# Altium footprint library USB连接器.PcbLib: 2 footprints
Each footprint in its own frame and in the unit in brackets; x right, y up, seen from the top. Pads: shape width x height; smd on the part's side, far side on the other; paste and mask are expansions set on the pad; w line width, h text height; cw(c..) or ccw(c..) is an arc to the next point about the centre after c.
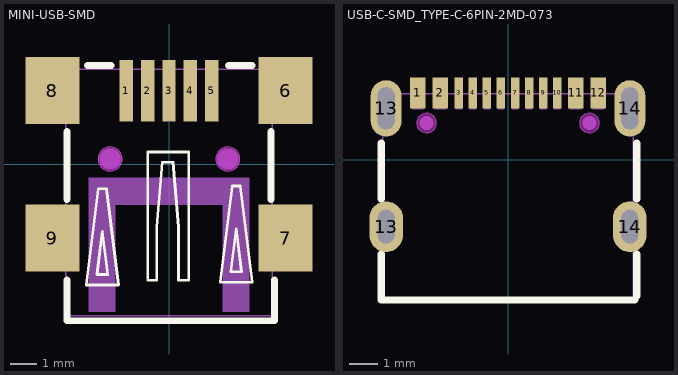
[diagram p0: the footprints below, top view; thin cyan lines are the x and y axes]

## MINI-USB-SMD [mm]
pads (9):
  rect 0.5x2.3 smd: 1(-1.6,2.75) 2(-0.8,2.75) 3(0,2.75) 4(0.8,2.75) 5(1.6,2.75)
  rect 2x2.5 smd: 6(4.35,2.75) 7(4.35,-2.75) 8(-4.35,2.75) 9(-4.35,-2.75)
Top Overlay:
  lines w0.102: -3.086,-4.507 -2.636,-0.908 -2.337,-0.908 -1.887,-4.507 -3.086,-4.507 ; -2.687,-4.108 -2.487,-2.508 -2.286,-4.108 -2.687,-4.108 ; -0.79,-4.329 -0.79,0.464 -0.762,0.464 0.737,0.464 0.737,-4.329 0.356,-4.329 0.356,-2.33 0.153,0.083 -0.254,0.083 -0.457,-2.33 -0.457,-4.329 -0.79,-4.329 ; 1.91,-4.405 2.36,-0.806 2.659,-0.806 3.109,-4.405 1.91,-4.405 ; 2.309,-4.006 2.51,-2.406 2.71,-4.006 2.309,-4.006
  lines w0.254: -3.81,-4.315 -3.81,-5.839 3.937,-5.839 3.937,-4.315 ; -3.81,-1.314 -3.81,1.226 ; -3.048,3.686 -2.159,3.686 ; 2.223,3.686 3.112,3.686 ; 3.81,-1.314 3.81,1.226
Keep-Out Layer:
  board cut-out: -1.75,0.2 -1.75,0.29 -1.818,0.455 -1.945,0.582 -2.11,0.65 -2.289,0.65 -2.455,0.582 -2.581,0.455 -2.65,0.29 -2.65,0.2 -2.65,0.111 -2.581,-0.055 -2.455,-0.182 -2.289,-0.25 -2.11,-0.25 -1.945,-0.182 -1.818,-0.055 -1.75,0.111
  board cut-out: 2.65,0.2 2.65,0.29 2.582,0.455 2.455,0.582 2.29,0.65 2.111,0.65 1.945,0.582 1.819,0.455 1.75,0.29 1.75,0.2 1.75,0.111 1.819,-0.055 1.945,-0.182 2.111,-0.25 2.29,-0.25 2.455,-0.182 2.582,-0.055 2.65,0.111
Mechanical 1:
  circle w0.005: c-2.2,0.2 r0.45
  circle w0.005: c2.2,0.2 r0.45
Mechanical 6:
  circle w0.4: c-2.2,0.2 r0.2
  circle w0.4: c2.2,0.2 r0.2
  region: -2,-0.5 2,-0.5 2,-1.5 -2,-1.5
  region: 3,-5.5 3,-0.5 2,-0.5 2,-5.5
  region: -3,-5.5 -3,-0.5 -2,-0.5 -2,-5.5
Mechanical 15:
  region: -4.9,-2 -3.7,-2 -3.7,-3.5 -4.9,-3.5
  region: 3.7,-2 4.9,-2 4.9,-3.5 3.7,-3.5
  region: 3.7,3.5 4.9,3.5 4.9,2 3.7,2
  region: -4.9,3.5 -3.7,3.5 -3.7,2 -4.9,2
  region: 1.45,3.546 1.75,3.546 1.75,2.046 1.45,2.046
  region: 0.65,3.546 0.95,3.546 0.95,2.046 0.65,2.046
  region: -0.15,3.546 0.15,3.546 0.15,2.046 -0.15,2.046
  region: -0.95,3.546 -0.65,3.546 -0.65,2.046 -0.95,2.046
  region: -1.75,3.546 -1.45,3.546 -1.45,2.046 -1.75,2.046
  region: -4.84,3.546 -4.841,3.57 -4.876,3.604 -4.924,3.604 -4.959,3.57 -4.96,3.546 -4.959,3.522 -4.924,3.489 -4.876,3.489 -4.841,3.522
  lines w0.051: -3.85,-5.654 -3.85,3.546 3.85,3.546 3.85,-5.654 -3.85,-5.654
Multi-Layer keep-out:
  region: -1.75,0.2 -1.75,0.29 -1.818,0.455 -1.945,0.582 -2.11,0.65 -2.289,0.65 -2.455,0.582 -2.581,0.455 -2.65,0.29 -2.65,0.2 -2.65,0.111 -2.581,-0.055 -2.455,-0.182 -2.289,-0.25 -2.11,-0.25 -1.945,-0.182 -1.818,-0.055 -1.75,0.111
  region: 2.65,0.2 2.65,0.29 2.582,0.455 2.455,0.582 2.29,0.65 2.111,0.65 1.945,0.582 1.819,0.455 1.75,0.29 1.75,0.2 1.75,0.111 1.819,-0.055 1.945,-0.182 2.111,-0.25 2.29,-0.25 2.455,-0.182 2.582,-0.055 2.65,0.111
3D body "USB1.step": height 3.85, standoff -0.8, extent -4.686,-5.779 4.814,3.921

## USB-C-SMD_TYPE-C-6PIN-2MD-073 [mm]
pads (16):
  rect 0.55x1.1 smd paste-100 mask+0.05: 1(-3.2,2.375) 2(-2.4,2.375) 11(2.4,2.375) 12(3.2,2.375)
  rect 0.3x1.1 smd paste-100 mask+0.05: 3(-1.75,2.375) 4(-1.25,2.375) 5(-0.75,2.375) 6(-0.25,2.375) 7(0.25,2.375) 8(0.75,2.375) 9(1.25,2.375) 10(1.75,2.375)
  oval 1.1x2 hole 0.6 slot 1.5 at 90 deg paste+0 mask+0.05: 13(-4.325,1.825) 14(4.325,1.825)
  oval 1.2x1.8 hole 0.6 slot 1.2 at 90 deg paste+0 mask+0.05: 13(-4.325,-2.375) 14(4.325,-2.375)
Top Overlay:
  lines w0.254: -4.5,-3.356 -4.5,-4.975 4.5,-4.975 ; -4.5,-1.394 -4.5,0.594 ; 4.572,-4.826 4.572,-3.353 ; 4.572,-1.397 4.572,0.597
Top Paste:
  drawing of 16 lines, arcs and shapes, not listed
Keep-Out Layer:
  board cut-out: -2.54,1.305 -2.541,1.374 -2.595,1.5 -2.694,1.597 -2.821,1.649 -2.959,1.649 -3.086,1.597 -3.184,1.5 -3.239,1.374 -3.24,1.305 -3.239,1.236 -3.184,1.11 -3.086,1.013 -2.959,0.961 -2.821,0.961 -2.694,1.013 -2.595,1.11 -2.541,1.236
  board cut-out: 3.24,1.305 3.239,1.374 3.185,1.5 3.086,1.597 2.959,1.649 2.821,1.649 2.694,1.597 2.596,1.5 2.541,1.374 2.54,1.305 2.541,1.236 2.596,1.11 2.694,1.013 2.821,0.961 2.959,0.961 3.086,1.013 3.185,1.11 3.239,1.236
Mechanical 1:
  circle w0.005: c-2.89,1.305 r0.35
  circle w0.005: c2.89,1.305 r0.35
Mechanical 6:
  circle w0.25: c-2.89,1.305 r0.125
  circle w0.25: c2.89,1.305 r0.125
Mechanical 15:
  region: -4.39,2.649 -4.39,2.674 -4.425,2.709 -4.475,2.709 -4.51,2.674 -4.51,2.649 -4.51,2.624 -4.475,2.589 -4.425,2.589 -4.39,2.624
  region: -1.85,2.649 -1.65,2.649 -1.65,1.799 -1.85,1.799
  region: -0.85,2.649 -0.65,2.649 -0.65,1.799 -0.85,1.799
  region: -1.35,2.649 -1.15,2.649 -1.15,1.799 -1.35,1.799
  region: -0.35,2.649 -0.15,2.649 -0.15,1.799 -0.35,1.799
  region: 0.15,2.649 0.35,2.649 0.35,1.799 0.15,1.799
  region: 0.65,2.649 0.85,2.649 0.85,1.799 0.65,1.799
  region: 1.15,2.649 1.35,2.649 1.35,1.799 1.15,1.799
  region: 1.65,2.649 1.85,2.649 1.85,1.799 1.65,1.799
  region: -3.4,2.649 -3,2.649 -3,1.799 -3.4,1.799
  region: -2.6,2.649 -2.2,2.649 -2.2,1.799 -2.6,1.799
  region: 2.2,2.649 2.6,2.649 2.6,1.799 2.2,1.799
  region: 3,2.649 3.4,2.649 3.4,1.799 3,1.799
  region: -4.45,2.349 -4.2,2.349 -4.2,1.249 -4.45,1.249
  region: 4.2,2.349 4.45,2.349 4.45,1.249 4.2,1.249
  region: -4.45,-2.025 -4.2,-2.025 -4.2,-2.725 -4.45,-2.725
  region: 4.2,-2.025 4.45,-2.025 4.45,-2.725 4.2,-2.725
  lines w0.051: -4.45,-5.001 -4.45,2.349 4.45,2.349 4.45,-5.001 -4.45,-5.001
Multi-Layer keep-out:
  region: -2.54,1.305 -2.541,1.374 -2.595,1.5 -2.694,1.597 -2.821,1.649 -2.959,1.649 -3.086,1.597 -3.184,1.5 -3.239,1.374 -3.24,1.305 -3.239,1.236 -3.184,1.11 -3.086,1.013 -2.959,0.961 -2.821,0.961 -2.694,1.013 -2.595,1.11 -2.541,1.236
  region: 3.24,1.305 3.239,1.374 3.185,1.5 3.086,1.597 2.959,1.649 2.821,1.649 2.694,1.597 2.596,1.5 2.541,1.374 2.54,1.305 2.541,1.236 2.596,1.11 2.694,1.013 2.821,0.961 2.959,0.961 3.086,1.013 3.185,1.11 3.239,1.236
3D body "USB1.step": height 3.26, standoff -0.9, extent -4.47,-4.99 4.47,2.59